# Altium schematic symbol library MOSFET DUAL NN.Schlib: 1 symbol
Pins are listed as number, name and electrical type; pins without a type are passive.

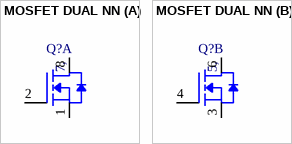
[diagram p0: symbol MOSFET DUAL NN]

## MOSFET DUAL NN
designator Q?
MOSFET, Dual
part A pins: 1 S, 2 G, 7 D, 8 D
part B pins: 3 S, 4 G, 5 D, 6 D
part A text: 7,
part B text: 5,